# EAGLE library part ATSHA204A (library TPM)
Description: 32K AES Serial EEPROM Specification Part #: ATAES132 Manufacturer: Atmel
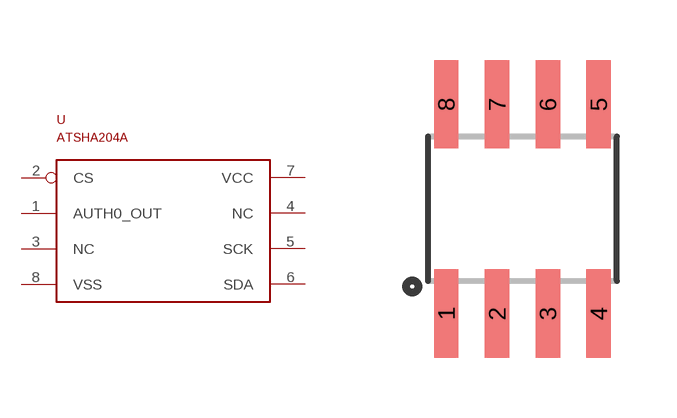
[diagram p3: symbol with the pads of SO08; footprint SO08]

Designator prefix -

## ATSHA204A  [SO08]
1  AUTH0_OUT
2  CS
3  NC  nc
4  NC  nc
5  SCK
6  SDA
7  VCC
8  VSS

## Footprint SO08 (pad centres in mm)
Small Outline Package Fits JEDEC packages (narrow SOIC-8)
smd 0.61 x 2.21: 1 -1.905,-2.616; 2 -0.635,-2.616; 3 0.635,-2.616; 4 1.905,-2.616; 5 1.905,2.616; 6 0.635,2.616; 7 -0.635,2.616; 8 -1.905,2.616